# Altium schematic symbol library MCP1702.Schlib: 1 symbol
Pins are listed as number, name and electrical type; pins without a type are passive.

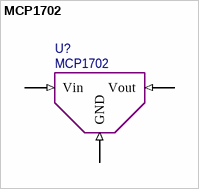
[diagram p0: symbol MCP1702]

## MCP1702
designator U?
pins: 1 GND (in), 2 Vin (in), 3 Vout (in)